# EAGLE library part PINHEAD-2X6 (library BaseApp)
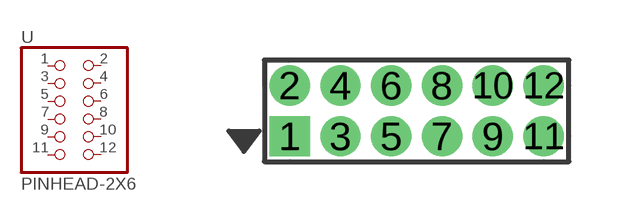
[diagram p162: symbol with the pads of PINHEAD-2.6-1.27MM; footprint PINHEAD-2.6-1.27MM]

Designator prefix -

## PINHEAD-2X6, PINHEAD-2X6NHD-0220FZ-FSW-GBW-P-33V3 (DIGIKEY: NHD-0220FZ-FSW-GBW-P-33V3-ND; PRICE_PER_UNIT: 10.9)  [PINHEAD-2.6-1.27MM]
1  1  pas
2  2  pas
3  3  pas
4  4  pas
5  5  pas
6  6  pas
7  7  pas
8  8  pas
9  9  pas
10  10  pas
11  11  pas
12  12  pas

## Footprint PINHEAD-2.6-1.27MM (pad centres in mm)
drill 0.5 square: 1 -2.54,-0.635
drill 0.5: 2 -2.54,0.635; 3 -1.27,-0.635; 4 -1.27,0.635; 5 0,-0.635; 6 0,0.635; 7 1.27,-0.635; 8 1.27,0.635; 9 2.54,-0.635; 10 2.54,0.635; 11 3.81,-0.635; 12 3.81,0.635